# Altium schematic symbol library Feed Through Capacitors.SchLib: 2 symbols
Pins are listed as number, name and electrical type; pins without a type are passive.

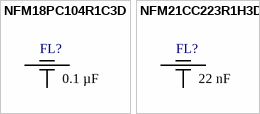
[diagram p0: symbols NFM18PC104R1C3D to NFM21CC223R1H3D]

## NFM18PC104R1C3D
designator FL?  Capacitance: 0.1 µF  (hidden comment: *)
CAP FEEDTHRU 0.1UF 20% 16V 0603; Supplier 1: Digi-Key; Supplier 2: Farnell; Supplier 3: Mouser; Supplier 4: Arrow Electronics; Supplier Part Number 1: 490-6969-1-ND; Supplier Part Number 2: 1686508; Supplier Part Number 3: 81-NFM18PC104R1C3D; Supplier Part Number 4: NFM18PC104R1C3D
footprint MURATA_NFM18PC
pins: 1, 2, 3

## NFM21CC223R1H3D
designator FL?  Capacitance: 22 nF  (hidden comment: *)
CAP FEEDTHRU 0.022UF 50V 0805; Supplier 1: Digi-Key; Supplier 2: Farnell; Supplier 3: Mouser; Supplier 4: Arrow Electronics; Supplier Part Number 1: 490-6978-1-ND; Supplier Part Number 2: 1828797; Supplier Part Number 3: 81-NFM21CC223R1H3D; Supplier Part Number 4: NFM21CC223R1H3D
footprint MURATA_NFM21CC
pins: 1, 2, 3